# Altium integrated library R1S-3.33.3_H.IntLib: 1 symbol
Pins are listed as number, name and electrical type; pins without a type are passive.

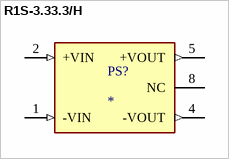
[diagram p0: symbol R1S-3.33.3/H]

## R1S-3.33.3/H
designator PS?
1W DC/DC-Converter 'ECONOLINE' SMD 3kV unreg; MF: Recom Power; MP: R1S-3.33.3/H; Value: *; Purchase-URL: https://pricing.snapeda.com/search/part/R1S-3.33.3/H/?ref=eda; Digi-Key_Part_Number: 945-1753-5-ND; Check_prices: https://www.snapeda.com/parts/R1S-3.33.3/H/Recom+Power/view-part/?ref=eda; SnapEDA_Link: https://www.snapeda.com/parts/R1S-3.33.3/H/Recom+Power/view-part/?ref=snap; Package: SMD-8 Recom Power
footprint CONV_R1S-3.33.3/H
pins: 1 -VIN (in), 2 +VIN (in), 4 -VOUT (out), 5 +VOUT (out), 8 NC